# Altium schematic symbol library Schlib_EPSON.SchLib: 1 symbol
Pins are listed as number, name and electrical type; pins without a type are passive.

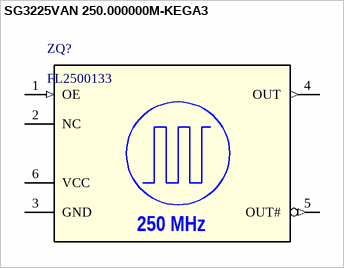
[diagram p0: symbol SG3225VAN 250.000000M-KEGA3]

## SG3225VAN 250.000000M-KEGA3
designator ZQ?, comment FL2500133
25 MHz crystal resonator ±15ppm; Manufacturer: Diodes Incorporated; Load Capacitance: 18pF; Equivalent Series Resistance: 40 Ohm; Part Number: FL2500133; Package: SMD3225 (3.20mm x 2.50mm)
pins: 1 OE (in), 2 NC (hiz), 3 GND (power), 4 OUT (out), 5 OUT# (out), 6 VCC (power)
text: 250 MHz